# Altium footprint library LED.PcbLib: 44 footprints (part 2 of 3)
Each footprint in its own frame and in the unit in brackets; x right, y up, seen from the top. Pads: shape width x height; smd on the part's side, far side on the other; paste and mask are expansions set on the pad; w line width, h text height; cw(c..) or ccw(c..) is an arc to the next point about the centre after c.
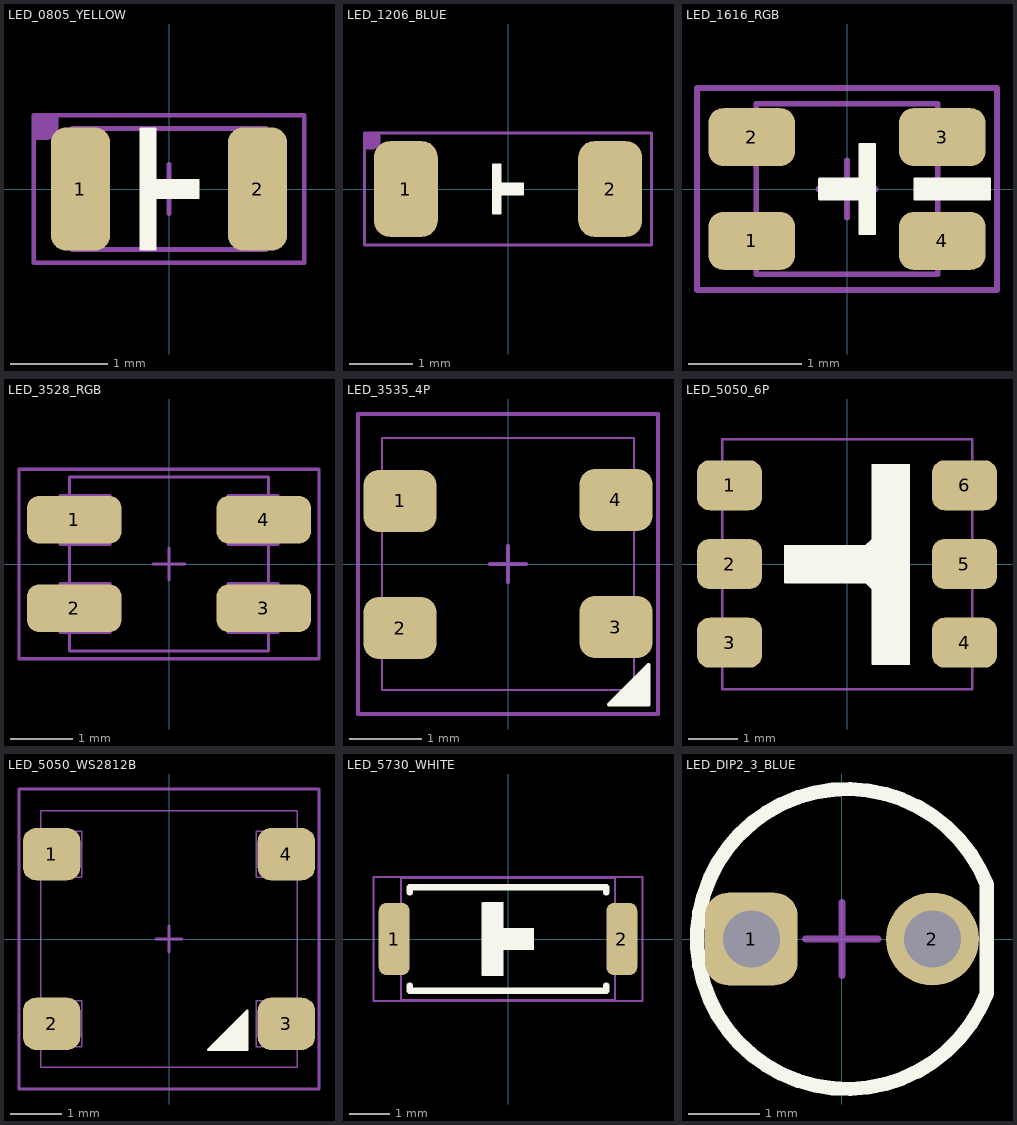
[diagram p1: the footprints below, top view; thin cyan lines are the x and y axes]

## LED_0805_YELLOW [mil]
height 47.24
pads (2):
  rrect50% 24x50 smd: 1(-36,0) 2(36,0)
Top Overlay:
  region: -11.5,24.5 -5.5,24.5 -5.5,3.5 12,3.5 12,-3.5 -5.5,-3.5 -5.5,-24.5 -11.5,-24.5
  lines w1: -11.5,-24.5 -5.5,-24.5 -5.5,-3.5 12,-3.5 12,3.5 -5.5,3.5 -5.5,24.5 -11.5,24.5 -11.5,-24.5
Mechanical 13:
  lines w2: -10,0 10,0 ; 0,-10 0,10 ; -39.37,-24.61 -39.37,24.61 39.37,24.61 39.37,-24.61 -39.37,-24.61
Mechanical 14:
  region: -55,30 -45,30 -45,25 -45,24.01 -45.76,22.17 -47.17,20.76 -49.01,20 -50,20 -55,20
  lines w2: -55,-30 55,-30 55,30 -55,30 -55,-30
  text ".Designator" at -31,-20 h80
3D body "User Library-led_0805LED0805_yellow.STEP": height 43.31, standoff 0, extent -39.76,-24.6 39.77,24.61

## LED_1206_BLUE [mil]
height 47.24
pads (2):
  rrect50% 40x60 smd: 1(-64,0) 2(64,0)
Top Overlay:
  region: -9.5,15.5 -4.5,15.5 -4.5,3.5 9.5,3.5 9.5,-3.5 -4.5,-3.5 -4.5,-15.5 -9.5,-15.5
  lines w1: -9.5,-15.5 -4.5,-15.5 -4.5,-3.5 9.5,-3.5 9.5,3.5 -4.5,3.5 -4.5,15.5 -9.5,15.5 -9.5,-15.5
Mechanical 14:
  region: -90,35 -80,35 -80,30 -80,29.01 -80.76,27.17 -82.17,25.76 -84.01,25 -85,25 -90,25
  lines w2: -90,-35 -90,35 90,35 90,-35 -90,-35
3D body "User Library-led_1206LED1206 blue.STEP": height 43.31, standoff 0, extent -63.39,-31.5 63.38,31.5

## LED_1206_GREEN [mil]
height 47.24
3D body "User Library-led_1206LED1206 green.STEP": height 43.31, standoff 0, extent -63.38,-31.5 63.39,31.5

## LED_1206_RED [mil]
height 47.24
3D body "User Library-led_1206LED1206 red.STEP": height 43.31, standoff 0, extent -63.39,-31.5 63.38,31.5

## LED_1616_RGB [mil]
height 47.24
pads (4):
  rrect50% 30x20 smd: 1(-33,-18) 2(-33,18) 3(33,18) 4(33,-18)
Top Overlay:
  region: 49.5,3.5 23.5,3.5 23.5,-3.5 49.5,-3.5
  region: 9.5,-15.5 4.5,-15.5 4.5,-3.5 -9.5,-3.5 -9.5,3.5 4.5,3.5 4.5,15.5 9.5,15.5
  lines w1: -9.5,-3.5 4.5,-3.5 4.5,-15.5 9.5,-15.5 9.5,15.5 4.5,15.5 4.5,3.5 -9.5,3.5 -9.5,-3.5 ; 23.5,-3.5 23.5,3.5 49.5,3.5 49.5,-3.5 23.5,-3.5
Mechanical 13:
  lines w2: -10,0 10,0 ; 0,-10 0,10 ; -31.49,-29.52 31.5,-29.52 31.5,29.53 -31.49,29.53 -31.49,-29.52
Mechanical 14:
  lines w2: -52,-35 -52,35 52,35 52,-35 -52,-35
  text ".Designator" at -30,-20 h80
3D body "User Library-HSMF-C114.STEP": height 13.39, standoff -0.39, extent -31.49,-29.52 31.5,29.53

## LED_3528_RGB [mil]
height 47.24
pads (4):
  rrect50% 60x30 smd: 1(-60,28) 2(-60,-28) 3(60,-28) 4(60,28)
Mechanical 13:
  lines w2: -62.99,-43.43 -62.99,-55.12 62.99,-55.12 62.99,-43.43 ; -62.99,-12.4 -62.99,12.4 ; -62.99,43.43 -62.99,55.12 62.99,55.12 62.99,43.43 ; -10,0 10,0 ; 0,-10 0,10 ; 62.99,-12.4 62.99,12.4 ; -68.9,-43.31 -37.4,-43.31 -37.4,-12.4 -68.9,-12.4 -68.9,-43.31 ; -68.9,12.4 -37.4,12.4 -37.4,43.31 -68.9,43.31 -68.9,12.4 ; 37.4,-43.31 68.9,-43.31 68.9,-12.4 37.4,-12.4 37.4,-43.31 ; 37.4,12.4 68.9,12.4 68.9,43.31 37.4,43.31 37.4,12.4
Mechanical 14:
  lines w2: -95,-60 -95,60 95,60 95,-60 -95,-60
  text ".Designator" at -30,-20 h80
3D body "User Library-KAA-3528.STEP": height 74.8, standoff 0, extent -68.9,-55.12 68.9,55.11

## LED_3535_4P [mil]
pads (4):
  rrect50% 40x34 smd: 1(-59,34.45) 2(-59,-35) 3(59,-34.45) 4(59,35)
Top Overlay:
  region: 77,-77 55,-77 77,-55
  lines w2: 55,-77 77,-55 77,-77 55,-77
Mechanical 13:
  lines w1: -68.9,-68.9 -68.9,68.9 68.9,68.9 68.9,-68.9 -68.9,-68.9
  lines w2: -10,0 10,0 ; 0,-10 0,10
Mechanical 14:
  lines w2: -82,-82 -82,82 82,82 82,-82 -82,-82
  text ".Designator" at -30,-20 h80
3D body "User Library-HP-XI3535.STEP": height 25.59, standoff -0.04, extent -68.9,-68.9 68.9,68.89

## LED_5050_6P [mil]
height 47.24
pads (6):
  rrect50% 52x40 smd: 1(-94,62.99) 2(-94,0) 3(-94,-62.99) 4(94,-62.99) 5(94,0) 6(94,62.99)
Top Overlay:
  region: 20,80 50,80 50,-80 20,-80 20,-20 15,-15 -50,-15 -50,15 15,15 20,20
  lines w1: -50,-15 15,-15 20,-20 20,-80 50,-80 50,80 20,80 20,20 15,15 -50,15 -50,-15
Mechanical 13:
  lines w2: -10,0 10,0 ; 0,-10 0,10
Mechanical 14:
  lines w2: -100,-100 -100,100 100,100 100,-100 -100,-100
  text ".Designator" at -30,-20 h80
3D body "User Library-smd_led_5050.STEP": height 62.99, standoff 0, extent -104.33,-98.5 104.33,98.35

## LED_5050_WS2812B [mil]
pads (4):
  rrect50% 44x40 smd: 1(-90,65) 2(-90,-65) 3(90,-65) 4(90,65)
Top Overlay:
  region: 60,-85 30,-85 60,-55
  lines w2: 30,-85 60,-85 60,-55 30,-85
Mechanical 13:
  lines w1: -101.93,-82.45 -101.93,-47.45 -66.93,-47.45 -66.93,-82.45 -101.93,-82.45 ; -101.93,47.46 -66.93,47.46 -66.93,82.46 -101.93,82.46 -101.93,47.46 ; -98.43,-98.43 98.43,-98.43 98.43,98.43 -98.43,98.43 -98.43,-98.43 ; 66.93,-82.45 101.93,-82.45 101.93,-47.45 66.93,-47.45 66.93,-82.45 ; 66.93,47.46 66.93,82.46 101.93,82.46 101.93,47.46 66.93,47.46
  lines w2: -10,0 10,0 ; 0,-10 0,10
Mechanical 14:
  lines w2: -115,-115 -115,115 115,115 115,-115 -115,-115
  text ".Designator" at -30,-20 h80
3D body "11821.STEP": height 69.02, standoff 0.13, extent -106.29,-98.42 106.3,98.43

## LED_5730_WHITE [mil]
pads (2):
  rrect50% 30x70 smd: 1(-110,0) 2(110,0)
Top Overlay:
  region: -24.5,35.5 -4.5,35.5 -4.5,10.5 25,10.5 25,-10.5 -4.5,-10.5 -4.5,-35.5 -24.5,-35.5
  lines w1: -25,-35 -25,35 -4.5,35 -4.5,10 25,10 25,-10 -4.5,-10 -4.5,-35 -25,-35
  lines w6: -95,-45 -95,-50 95,-50 95,-45 ; -95,45 -95,50 95,50 95,45
Mechanical 13:
  lines w2: -10,0 10,0 ; 0,-10 0,10 ; -103.35,-59.06 -103.35,59.06 103.35,59.06 103.35,-59.06 -103.35,-59.06
Mechanical 14:
  lines w2: -130,-60 -130,60 130,60 130,-60 -130,-60

## LED_DIP2_3_BLUE [mm]
height 1.2
pads (2):
  rrect50% 1.3x1.3 hole 0.8: 1(-1.27,0)
  round 1.3 hole 0.8: 2(1.27,0)
Top Overlay:
  lines w0.2: 2.032,-0.762 cw(c0.071,0) 2.032,0.762 2.032,-0.762
Mechanical 15:
  lines w0.1: -0.508,0 0.508,0 ; 0,-0.508 0,0.508
3D body "User Library-LED_d3-BLU.STEP": height 4.98, standoff -2.5, extent -1.651,-1.646 1.562,1.651

## LED_DIP2_3_GREEN [mil]
height 47.24
3D body "SW3dPS-LEDd3G.STEP": height 217.04, standoff -97.93, extent -80,-64.48 49.92,65

## LED_DIP2_3_RED [mil]
height 47.24
3D body "SW3dPS-LEDd3R.STEP": height 217.04, standoff -97.93, extent -69.96,-69.48 59.96,60

## LED_DIP2_3_YELLOW [mil]
height 47.24
3D body "SW3dPS-LEDd3Y.STEP": height 217.04, standoff -97.93, extent -69.92,-59.74 60,69.74

## LED_DIP2_5_BLUE [mil]
height 47.24
3D body "User Library-LEDd5B.STEP": height 484.75, standoff -97.93, extent -92.31,-113.49 121.08,123.5

## LED_DIP2_5_GREEN [mil]
height 47.24
3D body "SW3dPS-LEDd5G.STEP": height 484.75, standoff -97.93, extent -92.31,-128.49 121.08,108.5